# EAGLE library part SUPERTEX-HV860 (library LITTLEBITS140826)
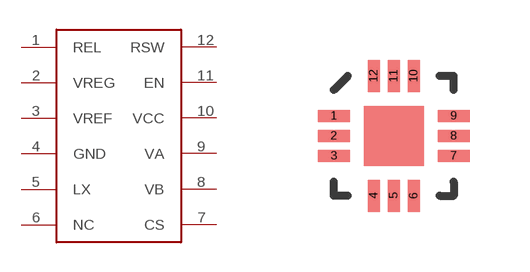
[diagram p8: symbol with the pads of QFN-12(K7); footprint QFN-12(K7)]

Designator prefix -

## SUPERTEX-HV860  [QFN-12(K7)]
1  REL
2  VREG
3  VREF
4  GND
5  LX
6  NC
7  CS
8  VB
9  VA
10  VCC
11  EN
12  RSW

## Footprint QFN-12(K7) (pad centres in mm)
smd 0.8 x 0.3: 1 0,2; 2 0,1.5; 3 0,1; 7 3,1; 8 3,1.5; 9 3,2
smd 0.3 x 0.8: 4 1,0; 5 1.5,0; 6 2,0; 10 2,3; 11 1.5,3; 12 1,3